# EAGLE library part BM-4088 (library logic-supply)
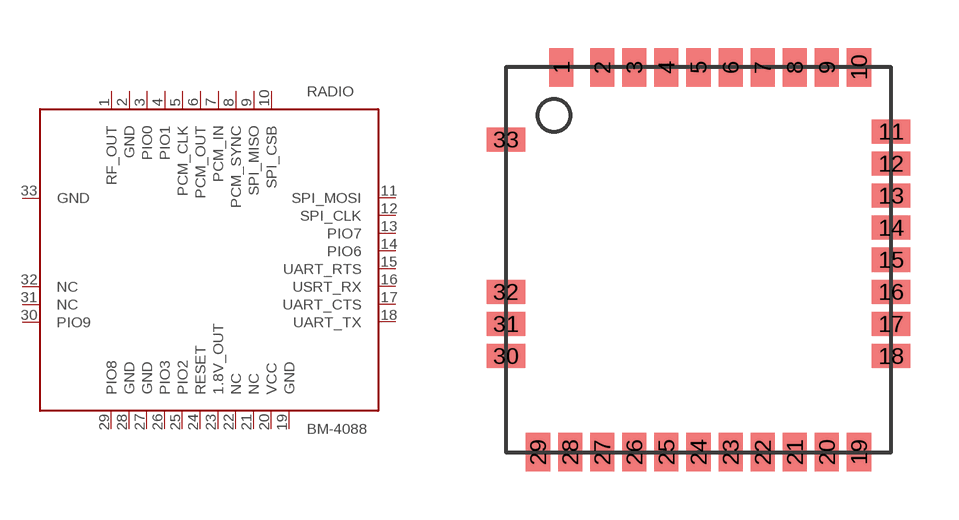
[diagram p47: symbol with the pads of BM-4088; footprint BM-4088]

Designator prefix RADIO

## BM-4088  [BM-4088]
1  RF_OUT
2  GND  pwr
3  PIO0
4  PIO1
5  PCM_CLK
6  PCM_OUT
7  PCM_IN
8  PCM_SYNC
9  SPI_MISO
10  SPI_CSB
11  SPI_MOSI
12  SPI_CLK
13  PIO7
14  PIO6
15  UART_RTS
16  USRT_RX  in
17  UART_CTS
18  UART_TX  out
19  GND  pwr
20  VCC  pwr
21  NC  nc
22  NC  nc
23  1.8V_OUT  sup
24  RESET  in
25  PIO2
26  PIO3
27  GND  pwr
28  GND  pwr
29  PIO8
30  PIO9
31  NC  nc
32  NC  nc
33  GND  nc

## Footprint BM-4088 (pad centres in mm)
smd 0.75 x 1.2: 1 -4.27,6; 2 -3,6; 3 -2,6; 4 -1,6; 5 0,6; 6 1,6; 7 2,6; 8 3,6; 9 4,6; 10 5,6; 19 5,-6; 20 4,-6; 21 3,-6; 22 2,-6; 23 1,-6; 24 0,-6; 25 -1,-6; 26 -2,-6; 27 -3,-6; 28 -4,-6; 29 -5,-6
smd 1.2 x 0.75: 11 6,4; 12 6,3; 13 6,2; 14 6,1; 15 6,0; 16 6,-1; 17 6,-2; 18 6,-3; 30 -6,-3; 31 -6,-2; 32 -6,-1; 33 -6,3.75